# Altium schematic symbol library AD9833.SchLib: 1 symbol
Pins are listed as number, name and electrical type; pins without a type are passive.

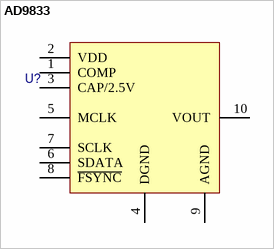
[diagram p0: symbol AD9833]

## AD9833
designator U?  (value not drawn)
pins: 1 COMP, 2 VDD, 3 CAP/2.5V, 4 DGND, 5 MCLK, 6 SDATA, 7 SCLK, 8 ~{FSYNC}, 9 AGND, 10 VOUT
1 alternate drawing of the same symbol